# EAGLE library part 204-212 (library switch-dil)
DPST DIP SWITCH
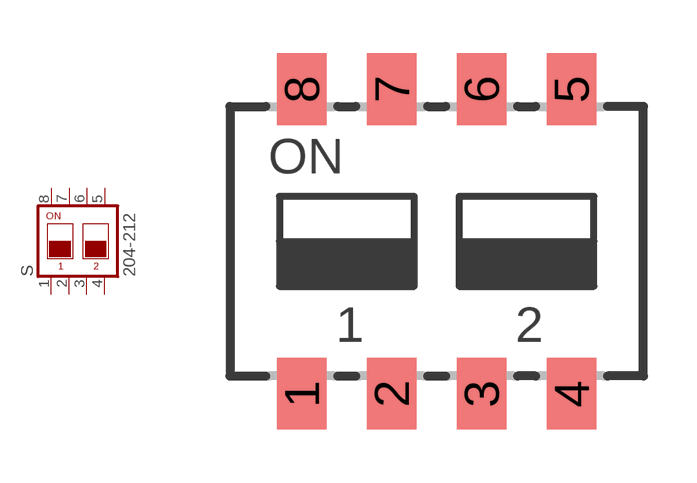
[diagram p74: symbol with the pads of 204-212; footprint 204-212]

Designator prefix S

## 204-212  [204-212]
1  1  pas
2  2  pas
3  3  pas
4  4  pas
5  5  pas
6  6  pas
7  7  pas
8  8  pas

## Footprint 204-212 (pad centres in mm)
DPST DIP SWITCH CTS Electrocomponents
smd 1.397 x 2.032: 1 -3.81,-4.305; 2 -1.27,-4.305; 3 1.27,-4.305; 4 3.81,-4.305; 5 3.81,4.305; 6 1.27,4.305; 7 -1.27,4.305; 8 -3.81,4.305